# Altium schematic symbol library kmilo17pet-TI_BattMgmt.SchLib: 950 symbols (part 16 of 60)
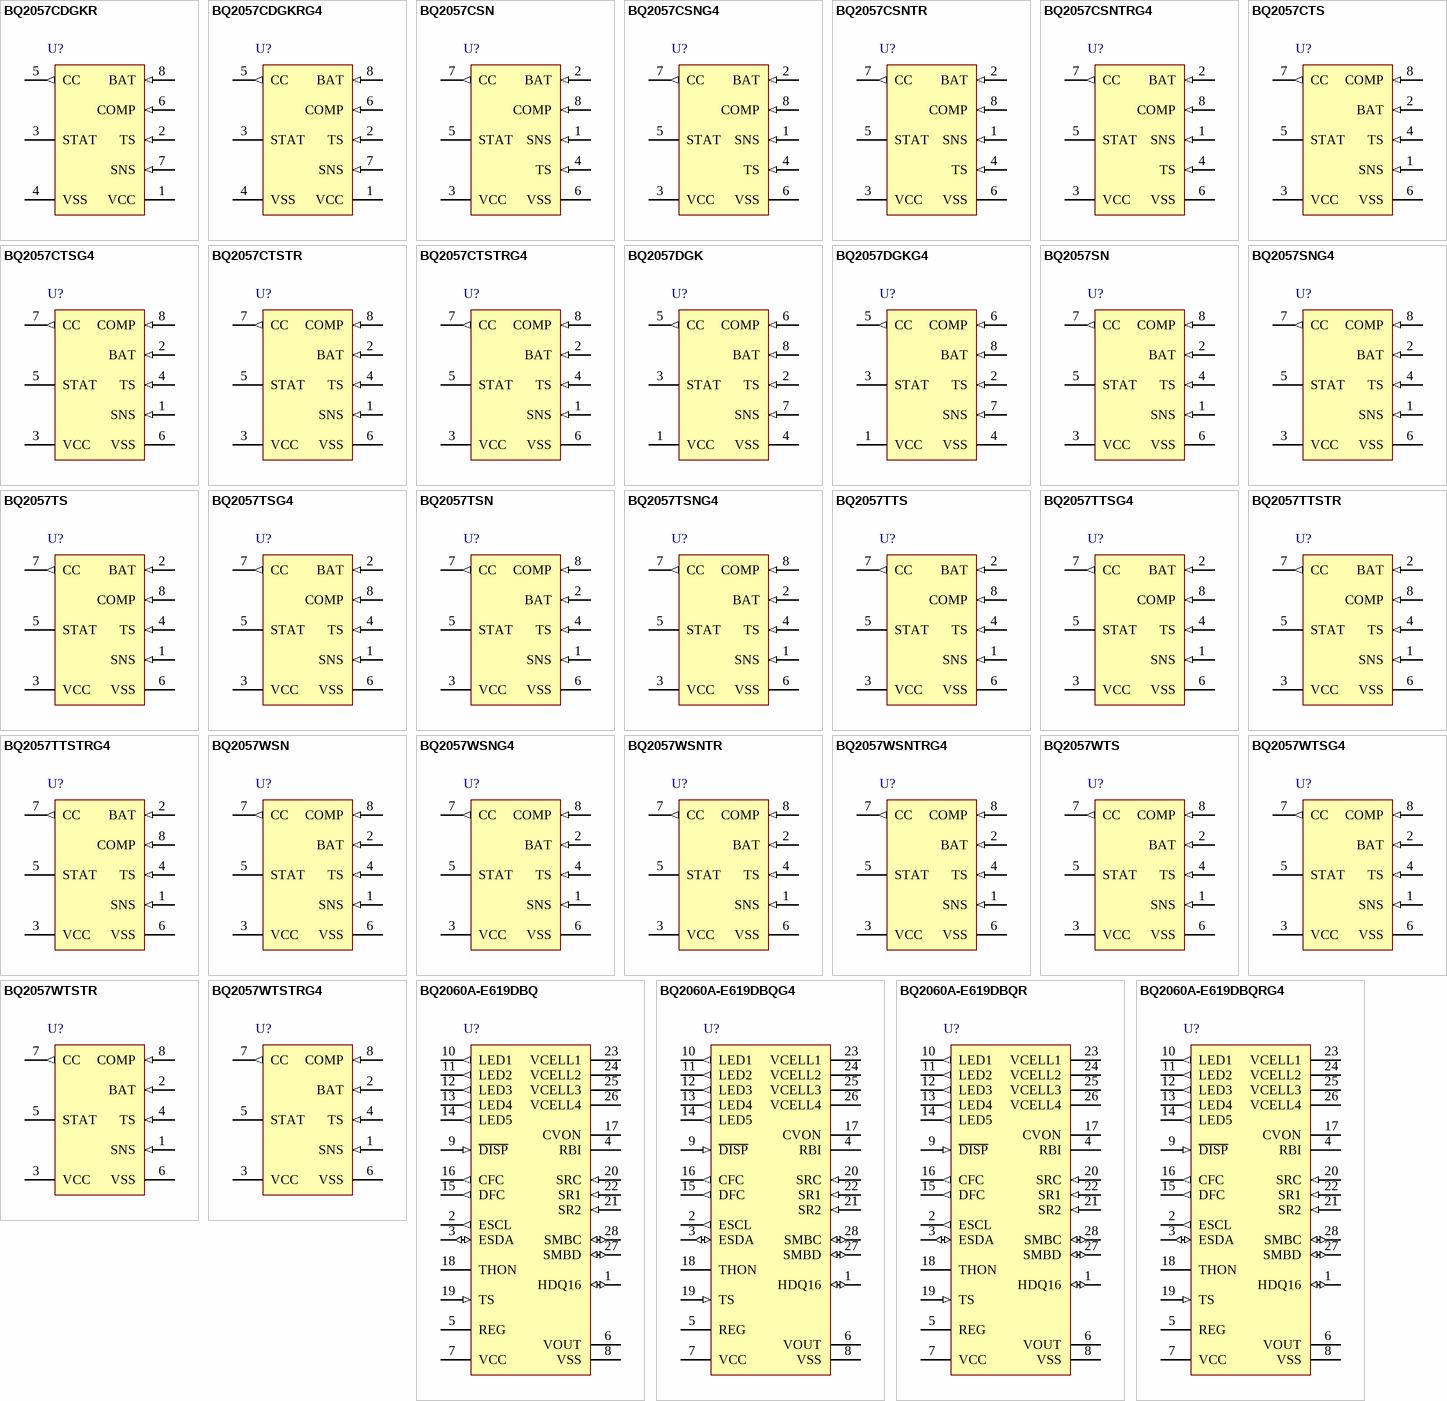
[diagram p49: symbols BQ2057CDGKR to BQ2060A-E619DBQRG4]

## BQ2057SNG4
designator U?
Low Dropout Linear 1-Cell Li-Ion Charge Controller with AutoCompTM, 4.5 V, -20 to 70 degC, 8-pin SOIC (D), Green (RoHS & no Sb/Br); PartNumber: BQ2057SNG4; Manufacturer: Texas Instruments; Lead Acid: N; Li-Ion: Y; SubFamily: Battery Charge Management; Vin(Min)(V): 4.5; DatasheetVersion: SLUS025F; PackageVersion: revM, Jun-2011; PackageReference: D8; PackageDescription: 8-Pin Plastic Small Outline Integrated Circuit, 4.9 x 3.9 mm, Pitch 1.27 mm Pitch; Supplier 1: Digi-Key; Supplier Part Number 1: BQ2057SNG4-ND; Supplier Part Number 3: 595-BQ2057SNG4; Eco-Plan: Green (RoHS & no Sb/Br); Li-Polymer: Y; NiCd: N; NiMH: N; Over Voltage Protection: N; Mounting Technology: Surface Mount; Code_JEDEC: MS-012AA; ComponentLink1Description: Datasheet; ComponentLink1URL: http://www.ti.com/general/docs/lit/getliterature.tsp?genericPartNumber=BQ2057&fileType=pdf
footprint D8_N (SOIC, 8-Leads, Body 4.9x3.9mm, Pitch 1.27mm, IPC Medium Density)
footprint D8_L (SOIC, 8-Leads, Body 4.9x3.9mm, Pitch 1.27mm, IPC High Density)
footprint D8_M (SOIC, 8-Leads, Body 4.9x3.9mm, Pitch 1.27mm, IPC Low Density)
pins: 1 SNS (in) "Current sense input", 2 BAT (in) "Voltage sense input", 3 VCC (power) "Supply voltage", 4 TS (in) "Temperature sense input", 5 STAT (hiz) "Charge status output", 6 VSS (power) "Ground", 7 CC (out) "Charge control output", 8 COMP (in) "Charge-rate compensation input (AutoComp)"

## BQ2057TS
designator U?
Low Dropout Linear 1-Cell Li-Ion Charge Controller with AutoCompTM, 4.1 V, 4.5 V, -20 to 70 degC, 8-pin TSSOP (PW), Green (RoHS & no Sb/Br); PartNumber: BQ2057TS; Manufacturer: Texas Instruments; Lead Acid: N; Li-Ion: Y; SubFamily: Battery Charge Management; Vin(Min)(V): 4.5; DatasheetVersion: SLUS025F; PackageVersion: revG, Feb-2011; PackageReference: PW8; PackageDescription: 8-Pin Plastic Thin Small Outline Package 3 x 4.4 mm Body ,0.65 mm Pitch; Supplier 1: Digi-Key; Supplier Part Number 1: 296-9361-5-ND; Supplier Part Number 3: 74C7594; Eco-Plan: Green (RoHS & no Sb/Br); Li-Polymer: Y; NiCd: N; NiMH: N; Over Voltage Protection: N; Mounting Technology: Surface Mount; Code_JEDEC: MO-153; ComponentLink1Description: Datasheet; ComponentLink1URL: http://www.ti.com/general/docs/lit/getliterature.tsp?genericPartNumber=BQ2057&fileType=pdf
footprint PW8_N (TSOP, 8-Leads, Body 3x4.4mm, Pitch 0.65mm, IPC Medium Density)
footprint PW8_L (TSOP, 8-Leads, Body 3x4.4mm, Pitch 0.65mm, IPC High Density)
footprint PW8_M (TSOP, 8-Leads, Body 3x4.4mm, Pitch 0.65mm, IPC Low Density)
pins: 1 SNS (in) "Current sense input", 2 BAT (in) "Voltage sense input", 3 VCC (power) "Supply voltage", 4 TS (in) "Temperature sense input", 5 STAT (hiz) "Charge status output", 6 VSS (power) "Ground", 7 CC (out) "Charge control output", 8 COMP (in) "Charge-rate compensation input (AutoComp)"

## BQ2057TSG4
designator U?
Low Dropout Linear 1-Cell Li-Ion Charge Controller with AutoCompTM, 4.1 V, 4.5 V, -20 to 70 degC, 8-pin TSSOP (PW), Green (RoHS & no Sb/Br); PartNumber: BQ2057TSG4; Manufacturer: Texas Instruments; Lead Acid: N; Li-Ion: Y; SubFamily: Battery Charge Management; Vin(Min)(V): 4.5; DatasheetVersion: SLUS025F; PackageVersion: revG, Feb-2011; PackageReference: PW8; PackageDescription: 8-Pin Plastic Thin Small Outline Package 3 x 4.4 mm Body ,0.65 mm Pitch; Supplier 1: Digi-Key; Supplier Part Number 1: BQ2057TSG4-ND; Supplier Part Number 3: 595-BQ2057TSG4; Eco-Plan: Green (RoHS & no Sb/Br); Li-Polymer: Y; NiCd: N; NiMH: N; Over Voltage Protection: N; Mounting Technology: Surface Mount; Code_JEDEC: MO-153; ComponentLink1Description: Datasheet; ComponentLink1URL: http://www.ti.com/general/docs/lit/getliterature.tsp?genericPartNumber=BQ2057&fileType=pdf
footprint PW8_N (TSOP, 8-Leads, Body 3x4.4mm, Pitch 0.65mm, IPC Medium Density)
footprint PW8_L (TSOP, 8-Leads, Body 3x4.4mm, Pitch 0.65mm, IPC High Density)
footprint PW8_M (TSOP, 8-Leads, Body 3x4.4mm, Pitch 0.65mm, IPC Low Density)
pins: 1 SNS (in) "Current sense input", 2 BAT (in) "Voltage sense input", 3 VCC (power) "Supply voltage", 4 TS (in) "Temperature sense input", 5 STAT (hiz) "Charge status output", 6 VSS (power) "Ground", 7 CC (out) "Charge control output", 8 COMP (in) "Charge-rate compensation input (AutoComp)"

## BQ2057TSN
designator U?
Low Dropout Linear 2-Cell Li-Ion Charge Controller with AutoCompTM, 4.5 V, -20 to 70 degC, 8-pin SOIC (D), Green (RoHS & no Sb/Br); PartNumber: BQ2057TSN; Manufacturer: Texas Instruments; Lead Acid: N; Li-Ion: Y; SubFamily: Battery Charge Management; Vin(Min)(V): 4.5; DatasheetVersion: SLUS025F; PackageVersion: revM, Jun-2011; PackageReference: D8; PackageDescription: 8-Pin Plastic Small Outline Integrated Circuit, 4.9 x 3.9 mm, Pitch 1.27 mm Pitch; Supplier 1: Digi-Key; Supplier Part Number 1: 296-9362-5-ND; Supplier Part Number 3: 595-BQ2057TSN; Eco-Plan: Green (RoHS & no Sb/Br); Li-Polymer: Y; NiCd: N; NiMH: N; Over Voltage Protection: N; Mounting Technology: Surface Mount; Code_JEDEC: MS-012AA; ComponentLink1Description: Datasheet; ComponentLink1URL: http://www.ti.com/general/docs/lit/getliterature.tsp?genericPartNumber=BQ2057T&fileType=pdf
footprint D8_N (SOIC, 8-Leads, Body 4.9x3.9mm, Pitch 1.27mm, IPC Medium Density)
footprint D8_L (SOIC, 8-Leads, Body 4.9x3.9mm, Pitch 1.27mm, IPC High Density)
footprint D8_M (SOIC, 8-Leads, Body 4.9x3.9mm, Pitch 1.27mm, IPC Low Density)
pins: 1 SNS (in) "Current sense input", 2 BAT (in) "Voltage sense input", 3 VCC (power) "Supply voltage", 4 TS (in) "Temperature sense input", 5 STAT (hiz) "Charge status output", 6 VSS (power) "Ground", 7 CC (out) "Charge control output", 8 COMP (in) "Charge-rate compensation input (AutoComp)"

## BQ2057TSNG4
designator U?
Low Dropout Linear 2-Cell Li-Ion Charge Controller with AutoCompTM, 4.5 V, -20 to 70 degC, 8-pin SOIC (D), Green (RoHS & no Sb/Br); PartNumber: BQ2057TSNG4; Manufacturer: Texas Instruments; Lead Acid: N; Li-Ion: Y; SubFamily: Battery Charge Management; Vin(Min)(V): 4.5; DatasheetVersion: SLUS025F; PackageVersion: revM, Jun-2011; PackageReference: D8; PackageDescription: 8-Pin Plastic Small Outline Integrated Circuit, 4.9 x 3.9 mm, Pitch 1.27 mm Pitch; Supplier 1: Digi-Key; Supplier Part Number 1: BQ2057TSNG4-ND; Supplier Part Number 3: 595-BQ2057TSNG4; Eco-Plan: Green (RoHS & no Sb/Br); Li-Polymer: Y; NiCd: N; NiMH: N; Over Voltage Protection: N; Mounting Technology: Surface Mount; Code_JEDEC: MS-012AA; ComponentLink1Description: Datasheet; ComponentLink1URL: http://www.ti.com/general/docs/lit/getliterature.tsp?genericPartNumber=BQ2057T&fileType=pdf
footprint D8_N (SOIC, 8-Leads, Body 4.9x3.9mm, Pitch 1.27mm, IPC Medium Density)
footprint D8_L (SOIC, 8-Leads, Body 4.9x3.9mm, Pitch 1.27mm, IPC High Density)
footprint D8_M (SOIC, 8-Leads, Body 4.9x3.9mm, Pitch 1.27mm, IPC Low Density)
pins: 1 SNS (in) "Current sense input", 2 BAT (in) "Voltage sense input", 3 VCC (power) "Supply voltage", 4 TS (in) "Temperature sense input", 5 STAT (hiz) "Charge status output", 6 VSS (power) "Ground", 7 CC (out) "Charge control output", 8 COMP (in) "Charge-rate compensation input (AutoComp)"

## BQ2057TTS
designator U?
Low Dropout Linear 2-Cell Li-Ion Charge Controller with AutoCompTM, 4.5 V, -20 to 70 degC, 8-pin TSSOP (PW), Green (RoHS & no Sb/Br); PartNumber: BQ2057TTS; Manufacturer: Texas Instruments; Lead Acid: N; Li-Ion: Y; SubFamily: Battery Charge Management; Vin(Min)(V): 4.5; DatasheetVersion: SLUS025F; PackageVersion: revG, Feb-2011; PackageReference: PW8; PackageDescription: 8-Pin Plastic Thin Small Outline Package 3 x 4.4 mm Body ,0.65 mm Pitch; Supplier 1: Digi-Key; Supplier Part Number 1: 296-9363-5-ND; Supplier Part Number 3: 595-BQ2057TTS; Eco-Plan: Green (RoHS & no Sb/Br); Li-Polymer: Y; NiCd: N; NiMH: N; Over Voltage Protection: N; Mounting Technology: Surface Mount; Code_JEDEC: MO-153; ComponentLink1Description: Datasheet; ComponentLink1URL: http://www.ti.com/general/docs/lit/getliterature.tsp?genericPartNumber=BQ2057T&fileType=pdf
footprint PW8_N (TSOP, 8-Leads, Body 3x4.4mm, Pitch 0.65mm, IPC Medium Density)
footprint PW8_L (TSOP, 8-Leads, Body 3x4.4mm, Pitch 0.65mm, IPC High Density)
footprint PW8_M (TSOP, 8-Leads, Body 3x4.4mm, Pitch 0.65mm, IPC Low Density)
pins: 1 SNS (in) "Current sense input", 2 BAT (in) "Voltage sense input", 3 VCC (power) "Supply voltage", 4 TS (in) "Temperature sense input", 5 STAT (hiz) "Charge status output", 6 VSS (power) "Ground", 7 CC (out) "Charge control output", 8 COMP (in) "Charge-rate compensation input (AutoComp)"

## BQ2057TTSG4
designator U?
Low Dropout Linear 2-Cell Li-Ion Charge Controller with AutoCompTM, 4.5 V, -20 to 70 degC, 8-pin TSSOP (PW), Green (RoHS & no Sb/Br); PartNumber: BQ2057TTSG4; Manufacturer: Texas Instruments; Lead Acid: N; Li-Ion: Y; SubFamily: Battery Charge Management; Vin(Min)(V): 4.5; DatasheetVersion: SLUS025F; PackageVersion: revG, Feb-2011; PackageReference: PW8; PackageDescription: 8-Pin Plastic Thin Small Outline Package 3 x 4.4 mm Body ,0.65 mm Pitch; Supplier 1: Digi-Key; Supplier Part Number 1: BQ2057TTSG4-ND; Supplier Part Number 3: 595-BQ2057TTSG4; Eco-Plan: Green (RoHS & no Sb/Br); Li-Polymer: Y; NiCd: N; NiMH: N; Over Voltage Protection: N; Mounting Technology: Surface Mount; Code_JEDEC: MO-153; ComponentLink1Description: Datasheet; ComponentLink1URL: http://www.ti.com/general/docs/lit/getliterature.tsp?genericPartNumber=BQ2057T&fileType=pdf
footprint PW8_N (TSOP, 8-Leads, Body 3x4.4mm, Pitch 0.65mm, IPC Medium Density)
footprint PW8_L (TSOP, 8-Leads, Body 3x4.4mm, Pitch 0.65mm, IPC High Density)
footprint PW8_M (TSOP, 8-Leads, Body 3x4.4mm, Pitch 0.65mm, IPC Low Density)
pins: 1 SNS (in) "Current sense input", 2 BAT (in) "Voltage sense input", 3 VCC (power) "Supply voltage", 4 TS (in) "Temperature sense input", 5 STAT (hiz) "Charge status output", 6 VSS (power) "Ground", 7 CC (out) "Charge control output", 8 COMP (in) "Charge-rate compensation input (AutoComp)"

## BQ2057TTSTR
designator U?
Low Dropout Linear 2-Cell Li-Ion Charge Controller with AutoCompTM, 4.5 V, -20 to 70 degC, 8-pin TSSOP (PW), Green (RoHS & no Sb/Br); PartNumber: BQ2057TTSTR; Manufacturer: Texas Instruments; Lead Acid: N; Li-Ion: Y; SubFamily: Battery Charge Management; Vin(Min)(V): 4.5; DatasheetVersion: SLUS025F; PackageVersion: revG, Feb-2011; PackageReference: PW8; PackageDescription: 8-Pin Plastic Thin Small Outline Package 3 x 4.4 mm Body ,0.65 mm Pitch; Supplier 1: Digi-Key; Supplier Part Number 1: BQ2057TTSTR-ND; Supplier Part Number 3: 595-BQ2057TTSTR; Eco-Plan: Green (RoHS & no Sb/Br); Li-Polymer: Y; NiCd: N; NiMH: N; Over Voltage Protection: N; Mounting Technology: Surface Mount; Code_JEDEC: MO-153; ComponentLink1Description: Datasheet; ComponentLink1URL: http://www.ti.com/general/docs/lit/getliterature.tsp?genericPartNumber=BQ2057T&fileType=pdf
footprint PW8_N (TSOP, 8-Leads, Body 3x4.4mm, Pitch 0.65mm, IPC Medium Density)
footprint PW8_L (TSOP, 8-Leads, Body 3x4.4mm, Pitch 0.65mm, IPC High Density)
footprint PW8_M (TSOP, 8-Leads, Body 3x4.4mm, Pitch 0.65mm, IPC Low Density)
pins: 1 SNS (in) "Current sense input", 2 BAT (in) "Voltage sense input", 3 VCC (power) "Supply voltage", 4 TS (in) "Temperature sense input", 5 STAT (hiz) "Charge status output", 6 VSS (power) "Ground", 7 CC (out) "Charge control output", 8 COMP (in) "Charge-rate compensation input (AutoComp)"

## BQ2057TTSTRG4
designator U?
Low Dropout Linear 2-Cell Li-Ion Charge Controller with AutoCompTM, 8.2 V, 4.5 V, -20 to 70 degC, 8-pin TSSOP (PW), Green (RoHS & no Sb/Br); PartNumber: BQ2057TTSTRG4; Manufacturer: Texas Instruments; Lead Acid: N; Li-Ion: Y; SubFamily: Battery Charge Management; Vin(Min)(V): 4.5; DatasheetVersion: SLUS025F; PackageVersion: revG, Feb-2011; PackageReference: PW8; PackageDescription: 8-Pin Plastic Thin Small Outline Package 3 x 4.4 mm Body ,0.65 mm Pitch; Supplier 1: Digi-Key; Supplier Part Number 1: BQ2057TTSTRG4-ND; Supplier Part Number 3: 595-BQ2057TTSTRG4; Eco-Plan: Green (RoHS & no Sb/Br); Li-Polymer: Y; NiCd: N; NiMH: N; Over Voltage Protection: N; Mounting Technology: Surface Mount; Code_JEDEC: MO-153; ComponentLink1Description: Datasheet; ComponentLink1URL: http://www.ti.com/general/docs/lit/getliterature.tsp?genericPartNumber=BQ2057T&fileType=pdf
footprint PW8_N (TSOP, 8-Leads, Body 3x4.4mm, Pitch 0.65mm, IPC Medium Density)
footprint PW8_L (TSOP, 8-Leads, Body 3x4.4mm, Pitch 0.65mm, IPC High Density)
footprint PW8_M (TSOP, 8-Leads, Body 3x4.4mm, Pitch 0.65mm, IPC Low Density)
pins: 1 SNS (in) "Current sense input", 2 BAT (in) "Voltage sense input", 3 VCC (power) "Supply voltage", 4 TS (in) "Temperature sense input", 5 STAT (hiz) "Charge status output", 6 VSS (power) "Ground", 7 CC (out) "Charge control output", 8 COMP (in) "Charge-rate compensation input (AutoComp)"

## BQ2057WSN
designator U?
Low Dropout Linear 2-Cell Li-Ion Charge Controller with AutoCompTM, 8.4 V, 4.5 V, -20 to 70 degC, 8-pin SOIC (D), Green (RoHS & no Sb/Br); PartNumber: BQ2057WSN; Manufacturer: Texas Instruments; Lead Acid: N; Li-Ion: Y; SubFamily: Battery Charge Management; Vin(Min)(V): 4.5; DatasheetVersion: SLUS025F; PackageVersion: revM, Jun-2011; PackageReference: D8; PackageDescription: 8-Pin Plastic Small Outline Integrated Circuit, 4.9 x 3.9 mm, Pitch 1.27 mm Pitch; Supplier 1: Digi-Key; Supplier Part Number 1: 296-9364-5-ND; Supplier Part Number 3: 74C7600; Eco-Plan: Green (RoHS & no Sb/Br); Li-Polymer: Y; NiCd: N; NiMH: N; Over Voltage Protection: N; Mounting Technology: Surface Mount; Code_JEDEC: MS-012AA; ComponentLink1Description: Datasheet; ComponentLink1URL: http://www.ti.com/general/docs/lit/getliterature.tsp?genericPartNumber=BQ2057W&fileType=pdf
footprint D8_N (SOIC, 8-Leads, Body 4.9x3.9mm, Pitch 1.27mm, IPC Medium Density)
footprint D8_L (SOIC, 8-Leads, Body 4.9x3.9mm, Pitch 1.27mm, IPC High Density)
footprint D8_M (SOIC, 8-Leads, Body 4.9x3.9mm, Pitch 1.27mm, IPC Low Density)
pins: 1 SNS (in) "Current sense input", 2 BAT (in) "Voltage sense input", 3 VCC (power) "Supply voltage", 4 TS (in) "Temperature sense input", 5 STAT (hiz) "Charge status output", 6 VSS (power) "Ground", 7 CC (out) "Charge control output", 8 COMP (in) "Charge-rate compensation input (AutoComp)"

## BQ2057WSNG4
designator U?
Low Dropout Linear 2-Cell Li-Ion Charge Controller with AutoCompTM, 8.4 V, 4.5 V, -20 to 70 degC, 8-pin SOIC (D), Green (RoHS & no Sb/Br); PartNumber: BQ2057WSNG4; Manufacturer: Texas Instruments; Lead Acid: N; Li-Ion: Y; SubFamily: Battery Charge Management; Vin(Min)(V): 4.5; DatasheetVersion: SLUS025F; PackageVersion: revM, Jun-2011; PackageReference: D8; PackageDescription: 8-Pin Plastic Small Outline Integrated Circuit, 4.9 x 3.9 mm, Pitch 1.27 mm Pitch; Supplier 1: Digi-Key; Supplier Part Number 1: BQ2057WSNG4-ND; Supplier Part Number 3: 595-BQ2057WSNG4; Eco-Plan: Green (RoHS & no Sb/Br); Li-Polymer: Y; NiCd: N; NiMH: N; Over Voltage Protection: N; Mounting Technology: Surface Mount; Code_JEDEC: MS-012AA; ComponentLink1Description: Datasheet; ComponentLink1URL: http://www.ti.com/general/docs/lit/getliterature.tsp?genericPartNumber=BQ2057W&fileType=pdf
footprint D8_N (SOIC, 8-Leads, Body 4.9x3.9mm, Pitch 1.27mm, IPC Medium Density)
footprint D8_L (SOIC, 8-Leads, Body 4.9x3.9mm, Pitch 1.27mm, IPC High Density)
footprint D8_M (SOIC, 8-Leads, Body 4.9x3.9mm, Pitch 1.27mm, IPC Low Density)
pins: 1 SNS (in) "Current sense input", 2 BAT (in) "Voltage sense input", 3 VCC (power) "Supply voltage", 4 TS (in) "Temperature sense input", 5 STAT (hiz) "Charge status output", 6 VSS (power) "Ground", 7 CC (out) "Charge control output", 8 COMP (in) "Charge-rate compensation input (AutoComp)"

## BQ2057WSNTR
designator U?
Low Dropout Linear 2-Cell Li-Ion Charge Controller with AutoCompTM, 8.4 V, 4.5 V, -20 to 70 degC, 8-pin SOIC (D), Green (RoHS & no Sb/Br); PartNumber: BQ2057WSNTR; Manufacturer: Texas Instruments; Lead Acid: N; Li-Ion: Y; SubFamily: Battery Charge Management; Vin(Min)(V): 4.5; DatasheetVersion: SLUS025F; PackageVersion: revM, Jun-2011; PackageReference: D8; PackageDescription: 8-Pin Plastic Small Outline Integrated Circuit, 4.9 x 3.9 mm, Pitch 1.27 mm Pitch; Supplier 1: Digi-Key; Supplier Part Number 1: BQ2057WSNTR-ND; Supplier Part Number 3: 595-BQ2057WSNTR; Eco-Plan: Green (RoHS & no Sb/Br); Li-Polymer: Y; NiCd: N; NiMH: N; Over Voltage Protection: N; Mounting Technology: Surface Mount; Code_JEDEC: MS-012AA; ComponentLink1Description: Datasheet; ComponentLink1URL: http://www.ti.com/general/docs/lit/getliterature.tsp?genericPartNumber=BQ2057W&fileType=pdf
footprint D8_N (SOIC, 8-Leads, Body 4.9x3.9mm, Pitch 1.27mm, IPC Medium Density)
footprint D8_L (SOIC, 8-Leads, Body 4.9x3.9mm, Pitch 1.27mm, IPC High Density)
footprint D8_M (SOIC, 8-Leads, Body 4.9x3.9mm, Pitch 1.27mm, IPC Low Density)
pins: 1 SNS (in) "Current sense input", 2 BAT (in) "Voltage sense input", 3 VCC (power) "Supply voltage", 4 TS (in) "Temperature sense input", 5 STAT (hiz) "Charge status output", 6 VSS (power) "Ground", 7 CC (out) "Charge control output", 8 COMP (in) "Charge-rate compensation input (AutoComp)"

## BQ2057WSNTRG4
designator U?
Low Dropout Linear 2-Cell Li-Ion Charge Controller with AutoCompTM, 8.4 V, 4.5 V, -20 to 70 degC, 8-pin SOIC (D), Green (RoHS & no Sb/Br); PartNumber: BQ2057WSNTRG4; Manufacturer: Texas Instruments; Lead Acid: N; Li-Ion: Y; SubFamily: Battery Charge Management; Vin(Min)(V): 4.5; DatasheetVersion: SLUS025F; PackageVersion: revM, Jun-2011; PackageReference: D8; PackageDescription: 8-Pin Plastic Small Outline Integrated Circuit, 4.9 x 3.9 mm, Pitch 1.27 mm Pitch; Supplier 1: Digi-Key; Supplier Part Number 1: BQ2057WSNTRG4-ND; Supplier Part Number 3: 595-BQ2057WSNTRG4; Eco-Plan: Green (RoHS & no Sb/Br); Li-Polymer: Y; NiCd: N; NiMH: N; Over Voltage Protection: N; Mounting Technology: Surface Mount; Code_JEDEC: MS-012AA; ComponentLink1Description: Datasheet; ComponentLink1URL: http://www.ti.com/general/docs/lit/getliterature.tsp?genericPartNumber=BQ2057W&fileType=pdf
footprint D8_N (SOIC, 8-Leads, Body 4.9x3.9mm, Pitch 1.27mm, IPC Medium Density)
footprint D8_L (SOIC, 8-Leads, Body 4.9x3.9mm, Pitch 1.27mm, IPC High Density)
footprint D8_M (SOIC, 8-Leads, Body 4.9x3.9mm, Pitch 1.27mm, IPC Low Density)
pins: 1 SNS (in) "Current sense input", 2 BAT (in) "Voltage sense input", 3 VCC (power) "Supply voltage", 4 TS (in) "Temperature sense input", 5 STAT (hiz) "Charge status output", 6 VSS (power) "Ground", 7 CC (out) "Charge control output", 8 COMP (in) "Charge-rate compensation input (AutoComp)"

## BQ2057WTS
designator U?
Low Dropout Linear 2-Cell Li-Ion Charge Controller with AutoCompTM, 8.4 V, 4.5 V, -20 to 70 degC, 8-pin TSSOP (PW), Green (RoHS & no Sb/Br); PartNumber: BQ2057WTS; Manufacturer: Texas Instruments; Lead Acid: N; Li-Ion: Y; SubFamily: Battery Charge Management; Vin(Min)(V): 4.5; DatasheetVersion: SLUS025F; PackageVersion: revG, Feb-2011; PackageReference: PW8; PackageDescription: 8-Pin Plastic Thin Small Outline Package 3 x 4.4 mm Body ,0.65 mm Pitch; Supplier 1: Digi-Key; Supplier Part Number 1: 296-9365-5-ND; Supplier Part Number 3: 595-BQ2057WTS; Eco-Plan: Green (RoHS & no Sb/Br); Li-Polymer: Y; NiCd: N; NiMH: N; Over Voltage Protection: N; Mounting Technology: Surface Mount; Code_JEDEC: MO-153; ComponentLink1Description: Datasheet; ComponentLink1URL: http://www.ti.com/general/docs/lit/getliterature.tsp?genericPartNumber=BQ2057W&fileType=pdf
footprint PW8_N (TSOP, 8-Leads, Body 3x4.4mm, Pitch 0.65mm, IPC Medium Density)
footprint PW8_L (TSOP, 8-Leads, Body 3x4.4mm, Pitch 0.65mm, IPC High Density)
footprint PW8_M (TSOP, 8-Leads, Body 3x4.4mm, Pitch 0.65mm, IPC Low Density)
pins: 1 SNS (in) "Current sense input", 2 BAT (in) "Voltage sense input", 3 VCC (power) "Supply voltage", 4 TS (in) "Temperature sense input", 5 STAT (hiz) "Charge status output", 6 VSS (power) "Ground", 7 CC (out) "Charge control output", 8 COMP (in) "Charge-rate compensation input (AutoComp)"

## BQ2057WTSG4
designator U?
Low Dropout Linear 2-Cell Li-Ion Charge Controller with AutoCompTM, 8.4 V, 4.5 V, -20 to 70 degC, 8-pin TSSOP (PW), Green (RoHS & no Sb/Br); PartNumber: BQ2057WTSG4; Manufacturer: Texas Instruments; Lead Acid: N; Li-Ion: Y; SubFamily: Battery Charge Management; Vin(Min)(V): 4.5; DatasheetVersion: SLUS025F; PackageVersion: revG, Feb-2011; PackageReference: PW8; PackageDescription: 8-Pin Plastic Thin Small Outline Package 3 x 4.4 mm Body ,0.65 mm Pitch; Supplier 1: Digi-Key; Supplier Part Number 1: BQ2057WTSG4-ND; Supplier Part Number 3: 96K7077; Eco-Plan: Green (RoHS & no Sb/Br); Li-Polymer: Y; NiCd: N; NiMH: N; Over Voltage Protection: N; Mounting Technology: Surface Mount; Code_JEDEC: MO-153; ComponentLink1Description: Datasheet; ComponentLink1URL: http://www.ti.com/general/docs/lit/getliterature.tsp?genericPartNumber=BQ2057W&fileType=pdf
footprint PW8_N (TSOP, 8-Leads, Body 3x4.4mm, Pitch 0.65mm, IPC Medium Density)
footprint PW8_L (TSOP, 8-Leads, Body 3x4.4mm, Pitch 0.65mm, IPC High Density)
footprint PW8_M (TSOP, 8-Leads, Body 3x4.4mm, Pitch 0.65mm, IPC Low Density)
pins: 1 SNS (in) "Current sense input", 2 BAT (in) "Voltage sense input", 3 VCC (power) "Supply voltage", 4 TS (in) "Temperature sense input", 5 STAT (hiz) "Charge status output", 6 VSS (power) "Ground", 7 CC (out) "Charge control output", 8 COMP (in) "Charge-rate compensation input (AutoComp)"

## BQ2057WTSTR
designator U?
Low Dropout Linear 2-Cell Li-Ion Charge Controller with AutoCompTM, 8.4 V, 4.5 V, -20 to 70 degC, 8-pin TSSOP (PW), Green (RoHS & no Sb/Br); PartNumber: BQ2057WTSTR; Manufacturer: Texas Instruments; Lead Acid: N; Li-Ion: Y; SubFamily: Battery Charge Management; Vin(Min)(V): 4.5; DatasheetVersion: SLUS025F; PackageVersion: revG, Feb-2011; PackageReference: PW8; PackageDescription: 8-Pin Plastic Thin Small Outline Package 3 x 4.4 mm Body ,0.65 mm Pitch; Supplier 1: Digi-Key; Supplier Part Number 1: 296-25917-2-ND; Supplier Part Number 3: 296-25917-6-ND; Eco-Plan: Green (RoHS & no Sb/Br); Li-Polymer: Y; NiCd: N; NiMH: N; Over Voltage Protection: N; Mounting Technology: Surface Mount; Code_JEDEC: MO-153; ComponentLink1Description: Datasheet; ComponentLink1URL: http://www.ti.com/general/docs/lit/getliterature.tsp?genericPartNumber=BQ2057W&fileType=pdf
footprint PW8_N (TSOP, 8-Leads, Body 3x4.4mm, Pitch 0.65mm, IPC Medium Density)
footprint PW8_L (TSOP, 8-Leads, Body 3x4.4mm, Pitch 0.65mm, IPC High Density)
footprint PW8_M (TSOP, 8-Leads, Body 3x4.4mm, Pitch 0.65mm, IPC Low Density)
pins: 1 SNS (in) "Current sense input", 2 BAT (in) "Voltage sense input", 3 VCC (power) "Supply voltage", 4 TS (in) "Temperature sense input", 5 STAT (hiz) "Charge status output", 6 VSS (power) "Ground", 7 CC (out) "Charge control output", 8 COMP (in) "Charge-rate compensation input (AutoComp)"

## BQ2057WTSTRG4
designator U?
Low Dropout Linear 2-Cell Li-Ion Charge Controller with AutoCompTM, 8.4 V, 4.5 V, -20 to 70 degC, 8-pin TSSOP (PW), Green (RoHS & no Sb/Br); PartNumber: BQ2057WTSTRG4; Manufacturer: Texas Instruments; Lead Acid: N; Li-Ion: Y; SubFamily: Battery Charge Management; Vin(Min)(V): 4.5; DatasheetVersion: SLUS025F; PackageVersion: revG, Feb-2011; PackageReference: PW8; PackageDescription: 8-Pin Plastic Thin Small Outline Package 3 x 4.4 mm Body ,0.65 mm Pitch; Supplier 1: Digi-Key; Supplier Part Number 1: BQ2057WTSTRG4-ND; Supplier Part Number 3: 595-BQ2057WTSTRG4; Eco-Plan: Green (RoHS & no Sb/Br); Li-Polymer: Y; NiCd: N; NiMH: N; Over Voltage Protection: N; Mounting Technology: Surface Mount; Code_JEDEC: MO-153; ComponentLink1Description: Datasheet; ComponentLink1URL: http://www.ti.com/general/docs/lit/getliterature.tsp?genericPartNumber=BQ2057W&fileType=pdf
footprint PW8_N (TSOP, 8-Leads, Body 3x4.4mm, Pitch 0.65mm, IPC Medium Density)
footprint PW8_L (TSOP, 8-Leads, Body 3x4.4mm, Pitch 0.65mm, IPC High Density)
footprint PW8_M (TSOP, 8-Leads, Body 3x4.4mm, Pitch 0.65mm, IPC Low Density)
pins: 1 SNS (in) "Current sense input", 2 BAT (in) "Voltage sense input", 3 VCC (power) "Supply voltage", 4 TS (in) "Temperature sense input", 5 STAT (hiz) "Charge status output", 6 VSS (power) "Ground", 7 CC (out) "Charge control output", 8 COMP (in) "Charge-rate compensation input (AutoComp)"

## BQ2060A-E619DBQ
designator U?
Multi-Chemistry SBS 1.1 Compliant Gas Gauge with 5 LED Drivers, Additional Battery Mgmt Control, -20 to 70 degC, 28-pin SSOP (DBQ), Green (RoHS & no Sb/Br); PartNumber: BQ2060A-E619DBQ; Manufacturer: Texas Instruments; Lead Acid: Y; Li-Polymer: N; SubFamily: Battery Fuel Gauge; DatasheetVersion: SLUS500D; PackageVersion: revH, Oct-2008; PackageReference: DBQ28; PackageDescription: 28-Pin Plastic Small Outline Package 0.635 mm Pitch; Supplier 1: Digi-Key; Supplier Part Number 1: 296-18388-5-ND; Supplier Part Number 3: 595-BQ2060A-E619DBQ; Eco-Plan: Green (RoHS & no Sb/Br); Li-Ion: Y; NiCd: Y; NiMH: Y; Over Voltage Protection: N; Mounting Technology: Surface Mount; Code_JEDEC: MO-137-AF; ComponentLink1Description: Datasheet; ComponentLink1URL: http://www.ti.com/general/docs/lit/getliterature.tsp?genericPartNumber=BQ2060A&fileType=pdf
footprint DBQ28_N (SOP, 28-Leads, Body 9.9x3.9mm, Pitch 0.635mm, IPC Medium Density)
footprint DBQ28_L (SOP, 28-Leads, Body 9.9x3.9mm, Pitch 0.635mm, IPC High Density)
footprint DBQ28_M (SOP, 28-Leads, Body 9.9x3.9mm, Pitch 0.635mm, IPC Low Density)
pins: 1 HDQ16 (io) "Serial communication input/output. Open-drain bidirectional communications port", 2 ESCL (out) "Serial memory clock. Output to clock the data transfer between the bq2060A and the external nonvolatile configuration memory", 3 ESDA (io) "Serial memory data and address. Bidirectional pin used to transfer address and data to and from the bq2060A and the external nonvolatile configuration memory", 4 RBI (power) "Register backup input. Input that provides backup potential to the bq2060A registers during periods of low operating voltage.RBI accepts a storage capacitor or a battery input.", 5 REG (power) "Regulator output. Output to control an n-JFET for VCC regulation to the bq2060A from the battery potential", 6 VOUT (power) "EEPROM supply output. Output that supplies power to the external EEPROM configuration memory", 7 VCC (power) "Supply voltage input", 8 VSS (power) "Ground", 9 ~{DISP} (in) "Display control input. Input that controls the LED drivers LED1-LED5", 10 LED1 (out) "LED display segment output.Output that each may drive an external LED", 11 LED2 (out) "LED display segment output.Output that each may drive an external LED", 12 LED3 (out) "LED display segment output.Output that each may drive an external LED", 13 LED4 (out) "LED display segment output.Output that each may drive an external LED", 14 LED5 (out) "LED display segment output.Output that each may drive an external LED", 15 DFC (out) "Discharge FET control. Output to control the discharge FET in the Li-ion pack protection circuitry", 16 CFC (out) "Charge FET control output. Output to control the charge FET in the Li-ion pack protection circuitry", 17 CVON (hiz) "Cell voltage divider control output. Output control for external FETs to connect the cells to the external voltage dividers during cell voltage measurements", 18 THON (hiz) "Thermistor bias control. Output control for external FETs to connect the thermistor bias resistor during a temperature measurement", 19 TS (in) "Thermistor voltage input. Input connection for a thermistor to monitor temperature", 20 SRC (in) "Current sense input. Input to monitor instantaneous current", 21 SR2 (in) "Charge-flow sense resistor inputs. Input connections for a small value sense resistor to monitor the battery charge and discharge current flow", 22 SR1 (in) "Charge-flow sense resistor inputs. Input connections for a small value sense resistor to monitor the battery charge and discharge current flow", 23 VCELL1 (power) "Single-cell voltage input.Input that monitor the series element cell voltages", 24 VCELL2 (power) "Single-cell voltage input.Input that monitor the series element cell voltages", 25 VCELL3 (power) "Single-cell voltage input.Input that monitor the series element cell voltages", 26 VCELL4 (power) "Single-cell voltage input.Input that monitor the series element cell voltages", 27 SMBD (io) "SMBus data. Open-drain bidirectional pin used to transfer address and data to and from the bq2060A", 28 SMBC (io) "SMBus clock. Open-drain bidirectional pin used to clock the data transfer to and from the bq2060A"

## BQ2060A-E619DBQG4
designator U?
Multi-Chemistry SBS 1.1 Compliant Gas Gauge with 5 LED Drivers, Additional Battery Mgmt Control, -20 to 70 degC, 28-pin SSOP (DBQ), Green (RoHS & no Sb/Br); PartNumber: BQ2060A-E619DBQG4; Manufacturer: Texas Instruments; Lead Acid: Y; Li-Polymer: N; SubFamily: Battery Fuel Gauge; DatasheetVersion: SLUS500D; PackageVersion: revH, Oct-2008; PackageReference: DBQ28; PackageDescription: 28-Pin Plastic Small Outline Package 0.635 mm Pitch; Supplier 1: Digi-Key; Supplier Part Number 1: BQ2060A-E619DBQG4-ND; Supplier Part Number 3: 39P9770; Eco-Plan: Green (RoHS & no Sb/Br); Li-Ion: Y; NiCd: Y; NiMH: Y; Over Voltage Protection: N; Mounting Technology: Surface Mount; Code_JEDEC: MO-137-AF; ComponentLink1Description: Datasheet; ComponentLink1URL: http://www.ti.com/general/docs/lit/getliterature.tsp?genericPartNumber=BQ2060A&fileType=pdf
footprint DBQ28_N (SOP, 28-Leads, Body 9.9x3.9mm, Pitch 0.635mm, IPC Medium Density)
footprint DBQ28_L (SOP, 28-Leads, Body 9.9x3.9mm, Pitch 0.635mm, IPC High Density)
footprint DBQ28_M (SOP, 28-Leads, Body 9.9x3.9mm, Pitch 0.635mm, IPC Low Density)
pins: 1 HDQ16 (io) "Serial communication input/output. Open-drain bidirectional communications port", 2 ESCL (out) "Serial memory clock. Output to clock the data transfer between the bq2060A and the external nonvolatile configuration memory", 3 ESDA (io) "Serial memory data and address. Bidirectional pin used to transfer address and data to and from the bq2060A and the external nonvolatile configuration memory", 4 RBI (power) "Register backup input. Input that provides backup potential to the bq2060A registers during periods of low operating voltage.RBI accepts a storage capacitor or a battery input.", 5 REG (power) "Regulator output. Output to control an n-JFET for VCC regulation to the bq2060A from the battery potential", 6 VOUT (power) "EEPROM supply output. Output that supplies power to the external EEPROM configuration memory", 7 VCC (power) "Supply voltage input", 8 VSS (power) "Ground", 9 ~{DISP} (in) "Display control input. Input that controls the LED drivers LED1-LED5", 10 LED1 (out) "LED display segment output.Output that each may drive an external LED", 11 LED2 (out) "LED display segment output.Output that each may drive an external LED", 12 LED3 (out) "LED display segment output.Output that each may drive an external LED", 13 LED4 (out) "LED display segment output.Output that each may drive an external LED", 14 LED5 (out) "LED display segment output.Output that each may drive an external LED", 15 DFC (out) "Discharge FET control. Output to control the discharge FET in the Li-ion pack protection circuitry", 16 CFC (out) "Charge FET control output. Output to control the charge FET in the Li-ion pack protection circuitry", 17 CVON (hiz) "Cell voltage divider control output. Output control for external FETs to connect the cells to the external voltage dividers during cell voltage measurements", 18 THON (hiz) "Thermistor bias control. Output control for external FETs to connect the thermistor bias resistor during a temperature measurement", 19 TS (in) "Thermistor voltage input. Input connection for a thermistor to monitor temperature", 20 SRC (in) "Current sense input. Input to monitor instantaneous current", 21 SR2 (in) "Charge-flow sense resistor inputs. Input connections for a small value sense resistor to monitor the battery charge and discharge current flow", 22 SR1 (in) "Charge-flow sense resistor inputs. Input connections for a small value sense resistor to monitor the battery charge and discharge current flow", 23 VCELL1 (power) "Single-cell voltage input.Input that monitor the series element cell voltages", 24 VCELL2 (power) "Single-cell voltage input.Input that monitor the series element cell voltages", 25 VCELL3 (power) "Single-cell voltage input.Input that monitor the series element cell voltages", 26 VCELL4 (power) "Single-cell voltage input.Input that monitor the series element cell voltages", 27 SMBD (io) "SMBus data. Open-drain bidirectional pin used to transfer address and data to and from the bq2060A", 28 SMBC (io) "SMBus clock. Open-drain bidirectional pin used to clock the data transfer to and from the bq2060A"

## BQ2060A-E619DBQR
designator U?
Multi-Chemistry SBS 1.1 Compliant Gas Gauge with 5 LED Drivers, Additional Battery Mgmt Control, -20 to 70 degC, 28-pin SSOP (DBQ), Green (RoHS & no Sb/Br); PartNumber: BQ2060A-E619DBQR; Manufacturer: Texas Instruments; Lead Acid: Y; Li-Polymer: N; SubFamily: Battery Fuel Gauge; DatasheetVersion: SLUS500D; PackageVersion: revH, Oct-2008; PackageReference: DBQ28; PackageDescription: 28-Pin Plastic Small Outline Package 0.635 mm Pitch; Supplier 1: Digi-Key; Supplier Part Number 1: 296-25918-2-ND; Supplier Part Number 3: 296-25918-6-ND; Eco-Plan: Green (RoHS & no Sb/Br); Li-Ion: Y; NiCd: Y; NiMH: Y; Over Voltage Protection: N; Mounting Technology: Surface Mount; Code_JEDEC: MO-137-AF; ComponentLink1Description: Datasheet; ComponentLink1URL: http://www.ti.com/general/docs/lit/getliterature.tsp?genericPartNumber=BQ2060A&fileType=pdf
footprint DBQ28_N (SOP, 28-Leads, Body 9.9x3.9mm, Pitch 0.635mm, IPC Medium Density)
footprint DBQ28_L (SOP, 28-Leads, Body 9.9x3.9mm, Pitch 0.635mm, IPC High Density)
footprint DBQ28_M (SOP, 28-Leads, Body 9.9x3.9mm, Pitch 0.635mm, IPC Low Density)
pins: 1 HDQ16 (io) "Serial communication input/output. Open-drain bidirectional communications port", 2 ESCL (out) "Serial memory clock. Output to clock the data transfer between the bq2060A and the external nonvolatile configuration memory", 3 ESDA (io) "Serial memory data and address. Bidirectional pin used to transfer address and data to and from the bq2060A and the external nonvolatile configuration memory", 4 RBI (power) "Register backup input. Input that provides backup potential to the bq2060A registers during periods of low operating voltage.RBI accepts a storage capacitor or a battery input.", 5 REG (power) "Regulator output. Output to control an n-JFET for VCC regulation to the bq2060A from the battery potential", 6 VOUT (power) "EEPROM supply output. Output that supplies power to the external EEPROM configuration memory", 7 VCC (power) "Supply voltage input", 8 VSS (power) "Ground", 9 ~{DISP} (in) "Display control input. Input that controls the LED drivers LED1-LED5", 10 LED1 (out) "LED display segment output.Output that each may drive an external LED", 11 LED2 (out) "LED display segment output.Output that each may drive an external LED", 12 LED3 (out) "LED display segment output.Output that each may drive an external LED", 13 LED4 (out) "LED display segment output.Output that each may drive an external LED", 14 LED5 (out) "LED display segment output.Output that each may drive an external LED", 15 DFC (out) "Discharge FET control. Output to control the discharge FET in the Li-ion pack protection circuitry", 16 CFC (out) "Charge FET control output. Output to control the charge FET in the Li-ion pack protection circuitry", 17 CVON (hiz) "Cell voltage divider control output. Output control for external FETs to connect the cells to the external voltage dividers during cell voltage measurements", 18 THON (hiz) "Thermistor bias control. Output control for external FETs to connect the thermistor bias resistor during a temperature measurement", 19 TS (in) "Thermistor voltage input. Input connection for a thermistor to monitor temperature", 20 SRC (in) "Current sense input. Input to monitor instantaneous current", 21 SR2 (in) "Charge-flow sense resistor inputs. Input connections for a small value sense resistor to monitor the battery charge and discharge current flow", 22 SR1 (in) "Charge-flow sense resistor inputs. Input connections for a small value sense resistor to monitor the battery charge and discharge current flow", 23 VCELL1 (power) "Single-cell voltage input.Input that monitor the series element cell voltages", 24 VCELL2 (power) "Single-cell voltage input.Input that monitor the series element cell voltages", 25 VCELL3 (power) "Single-cell voltage input.Input that monitor the series element cell voltages", 26 VCELL4 (power) "Single-cell voltage input.Input that monitor the series element cell voltages", 27 SMBD (io) "SMBus data. Open-drain bidirectional pin used to transfer address and data to and from the bq2060A", 28 SMBC (io) "SMBus clock. Open-drain bidirectional pin used to clock the data transfer to and from the bq2060A"

## BQ2060A-E619DBQRG4
designator U?
Multi-Chemistry SBS 1.1 Compliant Gas Gauge with 5 LED Drivers, Additional Battery Mgmt Control, -20 to 70 degC, 28-pin SSOP (DBQ), Green (RoHS & no Sb/Br); PartNumber: BQ2060A-E619DBQRG4; Manufacturer: Texas Instruments; Lead Acid: Y; Li-Polymer: N; SubFamily: Battery Fuel Gauge; DatasheetVersion: SLUS500D; PackageVersion: revH, Oct-2008; PackageReference: DBQ28; PackageDescription: 28-Pin Plastic Small Outline Package 0.635 mm Pitch; Supplier 1: Digi-Key; Supplier Part Number 1: BQ2060A-E619DBQRG4-ND; Supplier Part Number 3: 595-BQ2060E619DBQRG4; Eco-Plan: Green (RoHS & no Sb/Br); Li-Ion: Y; NiCd: Y; NiMH: Y; Over Voltage Protection: N; Mounting Technology: Surface Mount; Code_JEDEC: MO-137-AF; ComponentLink1Description: Datasheet; ComponentLink1URL: http://www.ti.com/general/docs/lit/getliterature.tsp?genericPartNumber=BQ2060A&fileType=pdf
footprint DBQ28_N (SOP, 28-Leads, Body 9.9x3.9mm, Pitch 0.635mm, IPC Medium Density)
footprint DBQ28_L (SOP, 28-Leads, Body 9.9x3.9mm, Pitch 0.635mm, IPC High Density)
footprint DBQ28_M (SOP, 28-Leads, Body 9.9x3.9mm, Pitch 0.635mm, IPC Low Density)
pins: 1 HDQ16 (io) "Serial communication input/output. Open-drain bidirectional communications port", 2 ESCL (out) "Serial memory clock. Output to clock the data transfer between the bq2060A and the external nonvolatile configuration memory", 3 ESDA (io) "Serial memory data and address. Bidirectional pin used to transfer address and data to and from the bq2060A and the external nonvolatile configuration memory", 4 RBI (power) "Register backup input. Input that provides backup potential to the bq2060A registers during periods of low operating voltage.RBI accepts a storage capacitor or a battery input.", 5 REG (power) "Regulator output. Output to control an n-JFET for VCC regulation to the bq2060A from the battery potential", 6 VOUT (power) "EEPROM supply output. Output that supplies power to the external EEPROM configuration memory", 7 VCC (power) "Supply voltage input", 8 VSS (power) "Ground", 9 ~{DISP} (in) "Display control input. Input that controls the LED drivers LED1-LED5", 10 LED1 (out) "LED display segment output.Output that each may drive an external LED", 11 LED2 (out) "LED display segment output.Output that each may drive an external LED", 12 LED3 (out) "LED display segment output.Output that each may drive an external LED", 13 LED4 (out) "LED display segment output.Output that each may drive an external LED", 14 LED5 (out) "LED display segment output.Output that each may drive an external LED", 15 DFC (out) "Discharge FET control. Output to control the discharge FET in the Li-ion pack protection circuitry", 16 CFC (out) "Charge FET control output. Output to control the charge FET in the Li-ion pack protection circuitry", 17 CVON (hiz) "Cell voltage divider control output. Output control for external FETs to connect the cells to the external voltage dividers during cell voltage measurements", 18 THON (hiz) "Thermistor bias control. Output control for external FETs to connect the thermistor bias resistor during a temperature measurement", 19 TS (in) "Thermistor voltage input. Input connection for a thermistor to monitor temperature", 20 SRC (in) "Current sense input. Input to monitor instantaneous current", 21 SR2 (in) "Charge-flow sense resistor inputs. Input connections for a small value sense resistor to monitor the battery charge and discharge current flow", 22 SR1 (in) "Charge-flow sense resistor inputs. Input connections for a small value sense resistor to monitor the battery charge and discharge current flow", 23 VCELL1 (power) "Single-cell voltage input.Input that monitor the series element cell voltages", 24 VCELL2 (power) "Single-cell voltage input.Input that monitor the series element cell voltages", 25 VCELL3 (power) "Single-cell voltage input.Input that monitor the series element cell voltages", 26 VCELL4 (power) "Single-cell voltage input.Input that monitor the series element cell voltages", 27 SMBD (io) "SMBus data. Open-drain bidirectional pin used to transfer address and data to and from the bq2060A", 28 SMBC (io) "SMBus clock. Open-drain bidirectional pin used to clock the data transfer to and from the bq2060A"

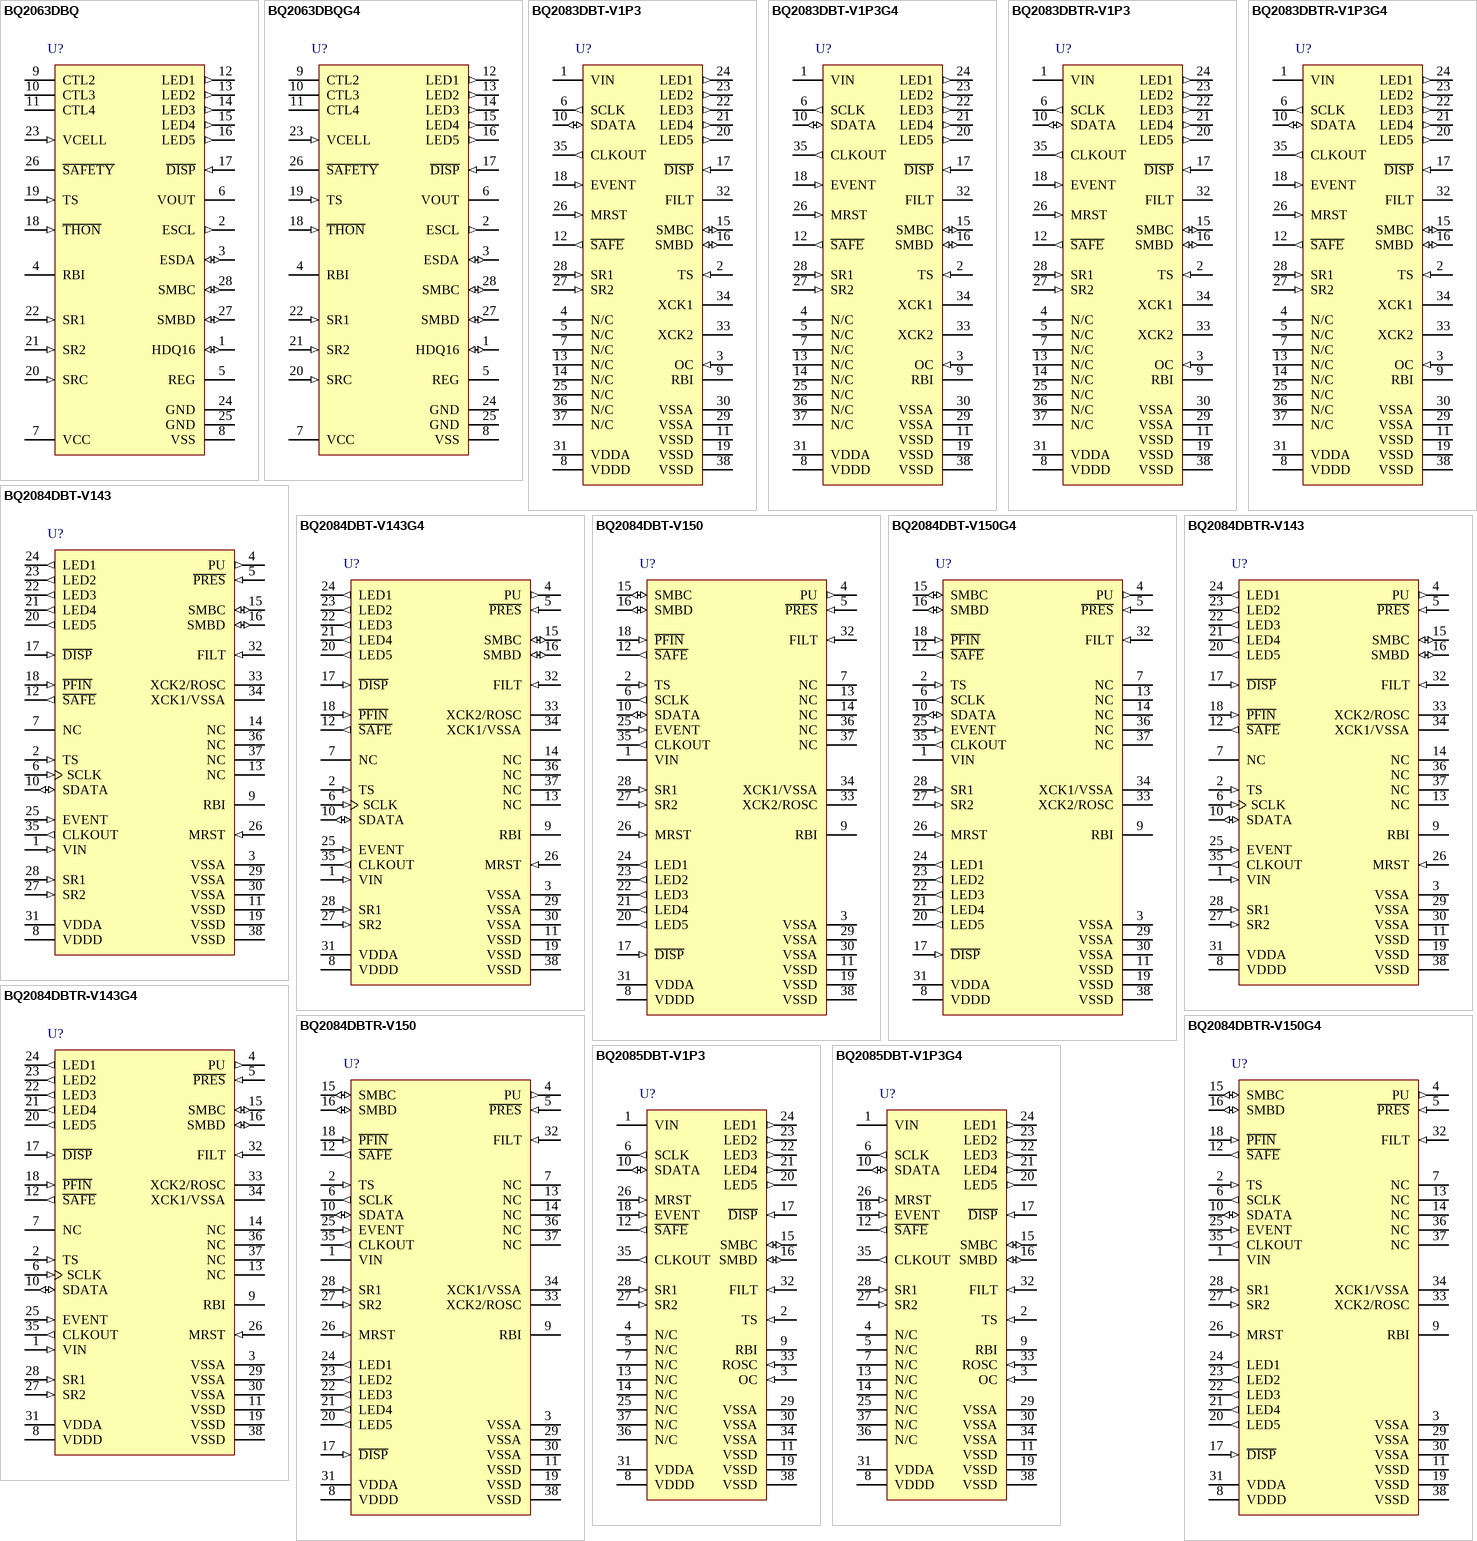
[diagram p9: symbols BQ2063DBQ to BQ2085DBT-V1P3G4]

## BQ2063DBQ
designator U?
Li-Ion SBS 1.1 Compliant Gas Gauge with Protector Interface, 0 to 70 degC, 28-pin SSOP/QSOP (DBQ), Green (RoHS & no Sb/Br); PartNumber: BQ2063DBQ; Manufacturer: Texas Instruments; Lead Acid: N; Li-Ion: Y; SubFamily: Battery Fuel Gauge; DatasheetVersion: SLUS468E; PackageVersion: revH, Oct-2008; PackageReference: DBQ28; PackageDescription: 28-Pin Plastic Small Outline Package 0.635 mm Pitch; Supplier 1: Digi-Key; Supplier Part Number 1: 296-12199-5-ND; Supplier Part Number 3: 595-BQ2063DBQ; Eco-Plan: Green (RoHS & no Sb/Br); Li-Polymer: N; NiCd: N; NiMH: N; Over Voltage Protection: N; Mounting Technology: Surface Mount; Code_JEDEC: MO-137-AF; ComponentLink1Description: Datasheet; ComponentLink1URL: http://www.ti.com/general/docs/lit/getliterature.tsp?genericPartNumber=BQ2063&fileType=pdf
footprint DBQ28_N (SOP, 28-Leads, Body 9.9x3.9mm, Pitch 0.635mm, IPC Medium Density)
footprint DBQ28_L (SOP, 28-Leads, Body 9.9x3.9mm, Pitch 0.635mm, IPC High Density)
footprint DBQ28_M (SOP, 28-Leads, Body 9.9x3.9mm, Pitch 0.635mm, IPC Low Density)
pins: 1 HDQ16 (io) "Serial communication open-drain bidirectional communications port", 2 ESCL (out) "Serial memory clock for data transfer between the bq2063 and the external nonvolatile configuration memory", 3 ESDA (io) "Bidirectional pin that transfers address and data to and from the bq2063 and the external nonvolatile configuration memory", 4 RBI (power) "Register backup that provides backup potential to the bq2063 registers during periods of low operating voltage. RBI accepts a storage capacitor or a battery input", 5 REG (power) "Regular output to control an n-JFET for Vcc regulation to the bq2063 from the battery potential", 6 VOUT (power) "VCC output that supplies power to the external EEPROM configuration memory", 7 VCC (power) "Supply voltage", 8 VSS (power) "Ground", 9 CTL2 (hiz) "3-state outputs to interface the S-8243 protection IC", 10 CTL3 (hiz) "3-state outputs to interface the S-8243 protection IC", 11 CTL4 (hiz) "3-state outputs to interface the S-8243 protection IC", 12 LED1 (out) "LED display segments that each may drive an external LED", 13 LED2 (out) "LED display segments that each may drive an external LED", 14 LED3 (out) "LED display segments that each may drive an external LED", 15 LED4 (out) "LED display segments that each may drive an external LED", 16 LED5 (out) "LED display segments that each may drive an external LED", 17 ~{DISP} (in) "Display control for the LED drivers LED1-LED5", 18 ~{THON} (in) "Control for external FETs to connect the thermistor bias resistor during a temperature measurement", 19 TS (in) "Thermistor voltage input connection to monitor temperature", 20 SRC (in) "Current-sense voltage to monitor instantaneous current", 21 SR2 (in) "Connections for a small-value sense resistor to monitor the battery charge- and discharge-current flow", 22 SR1 (in) "Connections for a small-value sense resistor to monitor the battery charge- and discharge-current flow", 23 VCELL (in) "Single-cell voltage input that monitors the series element cell voltages from the S-8243", 24 GND (power) "Must be tied externally to VSS", 25 GND (power) "Must be tied externally to VSS", 26 ~{SAFETY} (oc) "Open-drain output for an additional level of safety protection (e.g., fuse blow)", 27 SMBD (io) "SMBus data open-drain bidirectional pin used to transfer address and data to and from the bq2063", 28 SMBC (io) "SMBus clock open-drain bidirectional pin used to clock the data transfer to and from the bq2063"

## BQ2063DBQG4
designator U?
Li-Ion SBS 1.1 Compliant Gas Gauge with Protector Interface, 0 to 70 degC, 28-pin SSOP/QSOP (DBQ), Green (RoHS & no Sb/Br); PartNumber: BQ2063DBQG4; Manufacturer: Texas Instruments; Lead Acid: N; Li-Ion: Y; SubFamily: Battery Fuel Gauge; DatasheetVersion: SLUS468E; PackageVersion: revH, Oct-2008; PackageReference: DBQ28; PackageDescription: 28-Pin Plastic Small Outline Package 0.635 mm Pitch; Supplier 1: Digi-Key; Supplier Part Number 1: BQ2063DBQG4-ND; Supplier Part Number 3: 595-BQ2063DBQG4; Eco-Plan: Green (RoHS & no Sb/Br); Li-Polymer: N; NiCd: N; NiMH: N; Over Voltage Protection: N; Mounting Technology: Surface Mount; Code_JEDEC: MO-137-AF; ComponentLink1Description: Datasheet; ComponentLink1URL: http://www.ti.com/general/docs/lit/getliterature.tsp?genericPartNumber=BQ2063&fileType=pdf
footprint DBQ28_N (SOP, 28-Leads, Body 9.9x3.9mm, Pitch 0.635mm, IPC Medium Density)
footprint DBQ28_L (SOP, 28-Leads, Body 9.9x3.9mm, Pitch 0.635mm, IPC High Density)
footprint DBQ28_M (SOP, 28-Leads, Body 9.9x3.9mm, Pitch 0.635mm, IPC Low Density)
pins: 1 HDQ16 (io) "Serial communication open-drain bidirectional communications port", 2 ESCL (out) "Serial memory clock for data transfer between the bq2063 and the external nonvolatile configuration memory", 3 ESDA (io) "Bidirectional pin that transfers address and data to and from the bq2063 and the external nonvolatile configuration memory", 4 RBI (power) "Register backup that provides backup potential to the bq2063 registers during periods of low operating voltage. RBI accepts a storage capacitor or a battery input", 5 REG (power) "Regular output to control an n-JFET for Vcc regulation to the bq2063 from the battery potential", 6 VOUT (power) "VCC output that supplies power to the external EEPROM configuration memory", 7 VCC (power) "Supply voltage", 8 VSS (power) "Ground", 9 CTL2 (hiz) "3-state outputs to interface the S-8243 protection IC", 10 CTL3 (hiz) "3-state outputs to interface the S-8243 protection IC", 11 CTL4 (hiz) "3-state outputs to interface the S-8243 protection IC", 12 LED1 (out) "LED display segments that each may drive an external LED", 13 LED2 (out) "LED display segments that each may drive an external LED", 14 LED3 (out) "LED display segments that each may drive an external LED", 15 LED4 (out) "LED display segments that each may drive an external LED", 16 LED5 (out) "LED display segments that each may drive an external LED", 17 ~{DISP} (in) "Display control for the LED drivers LED1-LED5", 18 ~{THON} (in) "Control for external FETs to connect the thermistor bias resistor during a temperature measurement", 19 TS (in) "Thermistor voltage input connection to monitor temperature", 20 SRC (in) "Current-sense voltage to monitor instantaneous current", 21 SR2 (in) "Connections for a small-value sense resistor to monitor the battery charge- and discharge-current flow", 22 SR1 (in) "Connections for a small-value sense resistor to monitor the battery charge- and discharge-current flow", 23 VCELL (in) "Single-cell voltage input that monitors the series element cell voltages from the S-8243", 24 GND (power) "Must be tied externally to VSS", 25 GND (power) "Must be tied externally to VSS", 26 ~{SAFETY} (oc) "Open-drain output for an additional level of safety protection (e.g., fuse blow)", 27 SMBD (io) "SMBus data open-drain bidirectional pin used to transfer address and data to and from the bq2063", 28 SMBC (io) "SMBus clock open-drain bidirectional pin used to clock the data transfer to and from the bq2063"